# Altium schematic symbol library Resistor.SchLib: 285 symbols (part 3 of 3)
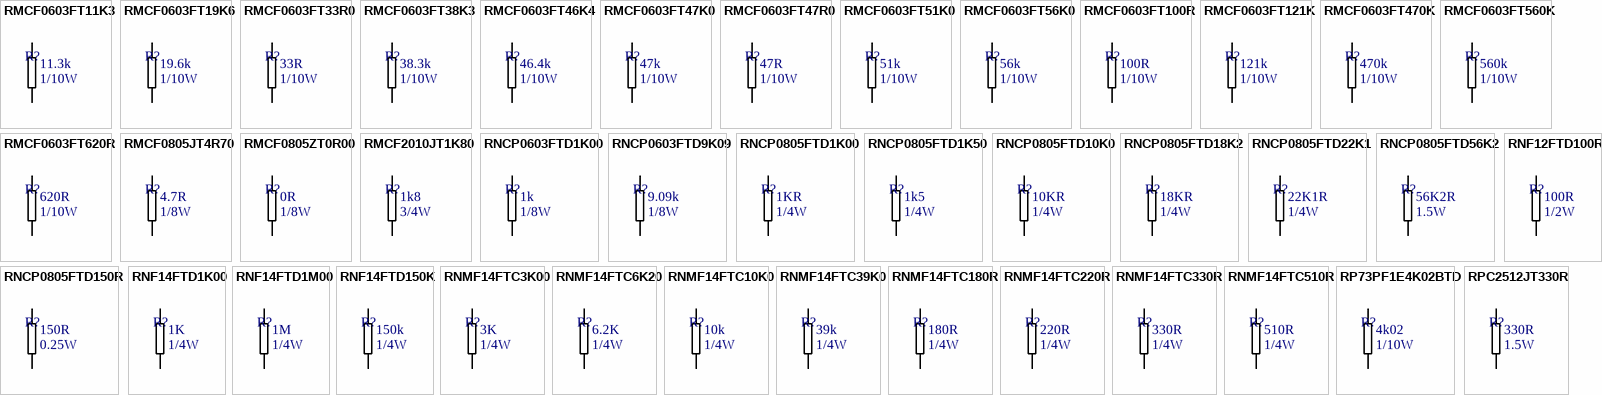
[diagram p9: symbols RMCF0603FT11K3 to RPC2512JT330R]

## RMCF0603FT56K0
designator R?  value 56k  Power: 1/10W  (hidden comment: RMCF0603FT56K0)
RES 56K OHM 1/10W 1% 0603; Manufacturer: Stackpole Electronics Inc; Mount Type: SMD; Tolerance: 1%; Supplier 1: Digi-Key; Supplier Part Number 1: RMCF0603FT56K0CT-ND
footprint R0603_MD (Chip Resistor, Body 1.6x0.8mm, IPC Medium Density)
pins: 1, 2

## RMCF0603FT100R
designator R?  value 100R  Power: 1/10W  (hidden comment: RMCF0603FT100R)
RES 100 OHM 1/10W 1% 0603; Manufacturer: Stackpole Electronics Inc; Mount Type: SMD; Tolerance: 1%; Supplier 1: Digi-Key; Supplier 2: Newark; Supplier Part Number 1: RMCF0603FT100RCT-ND; Supplier Part Number 2: 52K8078
footprint R0603_MD (Chip Resistor, Body 1.6x0.8mm, IPC Medium Density)
pins: 1, 2

## RMCF0603FT121K
designator R?  value 121k  Power: 1/10W  (hidden comment: RMCF0603FT121K)
RES 121K OHM 1/10W 1% 0603; Manufacturer: Stackpole Electronics Inc; Mount Type: SMD; Tolerance: 1%; Supplier 1: Newark; Supplier 2: Digi-Key; Supplier Part Number 1: 52K8115; Supplier Part Number 2: RMCF0603FT121KCT-ND
footprint R0603_MD (Chip Resistor, Body 1.6x0.8mm, IPC Medium Density)
pins: 1, 2

## RMCF0603FT470K
designator R?  value 470k  Power: 1/10W  (hidden comment: RMCF0603FT470K)
RES 470K OHM 1/10W 1% 0603; Manufacturer: Stackpole Electronics Inc; Mount Type: SMD; Tolerance: 1%; Supplier 1: Digi-Key; Supplier Part Number 1: RMCF0603FT470KCT-ND
footprint R0603_MD (Chip Resistor, Body 1.6x0.8mm, IPC Medium Density)
pins: 1, 2

## RMCF0603FT560K
designator R?  value 560k  Power: 1/10W  (hidden comment: RMCF0603FT560K)
RES 560K OHM 1/10W 1% 0603; Manufacturer: Stackpole Electronics Inc; Mount Type: SMD; Tolerance: 1%; Supplier 1: Digi-Key; Supplier Part Number 1: RMCF0603FT560KCT-ND
footprint R0603_MD (Chip Resistor, Body 1.6x0.8mm, IPC Medium Density)
pins: 1, 2

## RMCF0603FT620R
designator R?  value 620R  Power: 1/10W  (hidden comment: RMCF0603FT620R)
RES 620 OHM 1/10W 1% 0603; Manufacturer: Stackpole Electronics Inc; Mount Type: SMD; Tolerance: 1%; Supplier 1: Digi-Key; Supplier Part Number 1: RMCF0603FT620RCT-ND
footprint R0603_MD (Chip Resistor, Body 1.6x0.8mm, IPC Medium Density)
pins: 1, 2

## RMCF0805JT4R70
designator R?  value 4.7R  Power: 1/8W  (hidden comment: RMCF0805JT4R70)
RES SMD 4.7 OHM 5% 1/8W 0805; Manufacturer: Stackpole Electronics Inc.; Mount Type: SMD; Tolerance: 5%; Supplier 1: Farnell; Supplier 2: Newark; Supplier 3: Digi-Key; Supplier Part Number 1: 1514865; Supplier Part Number 2: 59M6913; Supplier Part Number 3: RMCF0805JT4R70CT-ND
footprint R0805_HD (Chip Resistor, Body 2.0x1.3mm, IPC High Density)
pins: 1, 2

## RMCF0805ZT0R00
designator R?  value 0R  Power: 1/8W  (hidden comment: RMCF0805ZT0R00)
RES 0.0 OHM 1/8W JUMP 0805; Manufacturer: Stackpole Electronics Inc; Tolerance: 1%; Mount Type: SMD; Supplier 1: Newark; Supplier 2: Digi-Key; Supplier Part Number 1: 79M6013; Supplier Part Number 2: RMCF0805ZT0R00CT-ND
footprint R0805_MD (Chip Resistor, Body 2.0x1.3mm, IPC Medium Density)
pins: 1, 2

## RMCF2010JT1K80
designator R?  value 1k8  Power: 3/4W  (hidden comment: RMCF2010JT1K80)
RES 1.8K OHM 3/4W 5% 2010; Manufacturer: Stackpole Electronics Inc; Mount Type: SMD; Tolerance: 5%; Supplier 1: Digi-Key; Supplier Part Number 1: RMCF2010JT1K80CT-ND
footprint R2010_MD (Chip Resistor, Body 5x2.5mm, IPC Medium Density)
pins: 1, 2

## RNCP0603FTD1K00
designator R?  value 1k  Power: 1/8W  (hidden comment: RNCP0603FTD1K00)
RES 1K OHM 1/8W 1% 0603; Manufacturer: Stackpole Electronics Inc; Mount Type: SMD; Tolerance: 1%; Supplier 1: Digi-Key; Supplier Part Number 1: RNCP0603FTD1K00CT-ND
footprint R0603_MD (Chip Resistor, Body 1.6x0.8mm, IPC Medium Density)
pins: 1, 2

## RNCP0603FTD9K09
designator R?  value 9.09k  Power: 1/8W  (hidden comment: RNCP0603FTD9K09)
RES 9.09K OHM 1/8W 1% 0603; Manufacturer: Stackpole Electronics Inc; Mount Type: SMD; Tolerance: 1%; Supplier 1: Digi-Key; Supplier Part Number 1: RNCP0603FTD9K09CT-ND
footprint R0603_MD (Chip Resistor, Body 1.6x0.8mm, IPC Medium Density)
pins: 1, 2

## RNCP0805FTD1K00
designator R?  value 1KR  Power: 1/4W  (hidden comment: RNCP0805FTD1K00)
RES SMD 1K OHM 1% 1/4W 0805; Manufacturer: Stackpole Electronics Inc.; Mount Type: SMD; Tolerance: 1%; Supplier 1: Arrow; Supplier Part Number 1: Cr6bAvbXXfw9aDhrtEtfpP4Qw9G0CbDuyktk-hMyCGE; Supplier 2: Digi-Key; Supplier Part Number 2: RNCP0805FTD1K00DKR-ND
footprint R0805_MD (Chip Resistor, Body 2.0x1.3mm, IPC Medium Density)
pins: 1, 2

## RNCP0805FTD1K50
designator R?  value 1k5  Power: 1/4W  (hidden comment: RNCP0805FTD1K50)
RES SMD 1.5K OHM 1% 1/4W 0805; Manufacturer: Stackpole Electronics Inc.; Mount Type: SMD; Tolerance: 1%; Supplier 6: Digi-Key; Supplier Part Number 6: RNCP0805FTD1K50TR-ND; Supplier 1: Digi-Key; Supplier Part Number 1: RNCP0805FTD1K50CT-ND; Supplier 2: Digi-Key; Supplier Part Number 2: RNCP0805FTD1K50DKR-ND
footprint R0805_MD (Chip Resistor, Body 2.0x1.3mm, IPC Medium Density)
pins: 1, 2

## RNCP0805FTD10K0
designator R?  value 10KR  Power: 1/4W  (hidden comment: RNCP0805FTD10K0)
RES SMD 10K OHM 1% 1/4W 0805; Manufacturer: Stackpole Electronics Inc.; Mount Type: SMD; Tolerance: 1%; Supplier 1: Digi-Key; Supplier Part Number 1: RNCP0805FTD10K0TR-ND; Supplier 2: Farnell; Supplier Part Number 2: 1576473; Supplier 3: Digi-Key; Supplier 4: Digi-Key; Supplier 5: Arrow; Supplier Part Number 3: RNCP0805FTD10K0CT-ND; Supplier Part Number 4: RNCP0805FTD10K0DKR-ND; Supplier Part Number 5: Cr6bAvbXXfw9aDhrtEtfpCMPYzlChi6THi2wt_G3woc
footprint R0805_MD (Chip Resistor, Body 2.0x1.3mm, IPC Medium Density)
pins: 1, 2

## RNCP0805FTD18K2
designator R?  value 18KR  Power: 1/4W  (hidden comment: RNCP0805FTD18K2)
RES SMD 18.2K OHM 1% 1/4W 0805; Manufacturer: Stackpole Electronics Inc.; Mount Type: SMD; Tolerance: 1%; Supplier 1: Digi-Key; Supplier Part Number 1: RNCP0805FTD18K2CT-ND
footprint R0805_MD (Chip Resistor, Body 2.0x1.3mm, IPC Medium Density)
pins: 1, 2

## RNCP0805FTD22K1
designator R?  value 22K1R  Power: 1/4W  (hidden comment: RNCP0805FTD22K1)
RES SMD 22.1K OHM 1% 1/4W 0805; Manufacturer: Stackpole Electronics Inc.; Mount Type: SMD; Tolerance: 1%; Supplier 1: Arrow; Supplier Part Number 1: yaxfc_XJzLb6q6X2XdbqQDJh6jsctqqpvjmLy0SBzwU; Supplier 2: Digi-Key; Supplier Part Number 2: RNCP0805FTD22K1TR-ND; Supplier 3: Digi-Key; Supplier Part Number 3: RNCP0805FTD22K1CT-ND; Supplier 4: Digi-Key; Supplier Part Number 4: RNCP0805FTD22K1DKR-ND
footprint R0805_MD (Chip Resistor, Body 2.0x1.3mm, IPC Medium Density)
pins: 1, 2

## RNCP0805FTD56K2
designator R?  value 56K2R  Power: 1.5W  (hidden comment: RNCP0805FTD56K2)
RES SMD 56.2K OHM 1% 1/4W 0805; Manufacturer: Stackpole Electronics Inc.; Mount Type: SMD; Tolerance: 1%; Supplier 1: Mouser; Supplier Part Number 1: Anonymous Daily Limit Reached; Supplier 2: Digi-Key; Supplier Part Number 2: RNCP0805FTD56K2TR-ND; Supplier 3: Digi-Key; Supplier Part Number 3: RNCP0805FTD56K2CT-ND; Supplier 4: Digi-Key; Supplier Part Number 4: RNCP0805FTD56K2DKR-ND
footprint R0805_MD (Chip Resistor, Body 2.0x1.3mm, IPC Medium Density)
pins: 1, 2

## RNCP0805FTD150R
designator R?  value 150R  Power: 0.25W  (hidden comment: RNCP0805FTD150R)
RES SMD 150 OHM 1% 1/4W 0805; Manufacturer: Stackpole Electronics Inc.; Mount Type: SMD; Tolerance: 1%; Supplier 1: Digi-Key; Supplier Part Number 1: RNCP0805FTD150RCT-ND
footprint R0805_MD (Chip Resistor, Body 2.0x1.3mm, IPC Medium Density)
pins: 1, 2

## RNF12FTD100R
designator R?  value 100R  Power: 1/2W  (hidden comment: RNF12FTD100R)
RES 100 OHM 1/2W 1% AXIAL; Manufacturer: Stackpole Electronics Inc; Mount Type: PTH; Tolerance: 1%; Supplier 1: Digi-Key; Supplier Part Number 1: RNF12FTD100RCT-ND
footprint RES_AXIAL_0.4
pins: 1, 2

## RNF14FTD1K00
designator R?  value 1K  Power: 1/4W  (hidden comment: RNF14FTD1K00)
RES 1K OHM 1/4W 1% AXIAL; Manufacturer: Stackpole Electronics Inc.; Mount Type: PTH; Tolerance: 1%; Supplier 1: Newark; Supplier 2: Farnell; Supplier 3: Digi-Key; Supplier Part Number 1: 92B3651; Supplier Part Number 2: 4677341; Supplier Part Number 3: RNF14FTD1K00CT-ND
footprint RES_AXIAL_0.4
pins: 1, 2

## RNF14FTD1M00
designator R?  value 1M  Power: 1/4W  (hidden comment: RNF14FTD1M00)
RES 1M OHM 1/4W 1% AXIAL; Manufacturer: Stackpole Electronics Inc; Mount Type: PTH; Tolerance: 1%; Supplier 1: Newark; Supplier Part Number 1: 67T0186; Supplier 2: Digi-Key; Supplier Part Number 2: RNF14FTD1M00CT-ND
footprint RES_AXIAL_0.4
pins: 1, 2

## RNF14FTD150K
designator R?  value 150k  Power: 1/4W  (hidden comment: RNF14FTD150K)
RES 150K OHM 1/4W 1% AXIAL; Manufacturer: Stackpole Electronics Inc; Mount Type: PTH; Tolerance: 1%
footprint RES_AXIAL_0.4
pins: 1, 2

## RNMF14FTC3K00
designator R?  value 3K  Power: 1/4W  (hidden comment: RNMF14FTC3K00)
RES 3K OHM 1/4W 1% AXIAL; Manufacturer: Stackpole Electronics Inc.; Mount Type: PTH; Tolerance: 1%; Supplier 1: Digi-Key; Supplier Part Number 1: S3KCACT-ND
footprint RES_AXIAL_0.4
pins: 1, 2

## RNMF14FTC6K20
designator R?  value 6.2K  Power: 1/4W  (hidden comment: RNMF14FTC6K20)
RES 6.2K OHM 1/4W 1% AXIAL; Manufacturer: Stackpole Electronics Inc.; Mount Type: PTH; Supplier 1: Digi-Key; Tolerance: 1%; Supplier Part Number 1: S6.2KCACT-ND
footprint RES_AXIAL_0.4
pins: 1, 2

## RNMF14FTC10K0
designator R?  value 10k  Power: 1/4W  (hidden comment: RNMF14FTC10K0)
RES 10K OHM 1/4W 1% AXIAL; Manufacturer: Stackpole Electronics Inc; Mount Type: PTH; Tolerance: 1%; Supplier 1: Digi-Key; Supplier Part Number 1: S10KCATR-ND
footprint RES_AXIAL_0.4
pins: 1, 2

## RNMF14FTC39K0
designator R?  value 39k  Power: 1/4W  (hidden comment: RNMF14FTC39K0)
RES 39K OHM 1/4W 1% AXIAL; Manufacturer: Stackpole Electronics Inc; Mount Type: PTH; Tolerance: 1%; Supplier 1: Digi-Key; Supplier Part Number 1: S39KCACT-ND
footprint RES_AXIAL_0.4
pins: 1, 2

## RNMF14FTC180R
designator R?  value 180R  Power: 1/4W  (hidden comment: RNMF14FTC180R)
RES 180 OHM 1/4W 1% AXIAL; Manufacturer: Stackpole Electronics Inc; Mount Type: PTH; Tolerance: 1%; Supplier 1: Digi-Key; Supplier Part Number 1: S180CACT-ND
footprint RES_AXIAL_0.4
pins: 1, 2

## RNMF14FTC220R
designator R?  value 220R  Power: 1/4W  (hidden comment: RNMF14FTC220R)
RES 220 OHM 1/4W 1% AXIAL; Manufacturer: Stackpole Electronics Inc; Mount Type: PTH; Tolerance: 1%; Supplier 1: Digi-Key; Supplier Part Number 1: S220CACT-ND
footprint RES_AXIAL_0.4
pins: 1, 2

## RNMF14FTC330R
designator R?  value 330R  Power: 1/4W  (hidden comment: RNMF14FTC330R)
RES 330 OHM 1/4W 1% AXIAL; Manufacturer: Stackpole Electronics Inc; Mount Type: PTH; Tolerance: 1%; Supplier 1: Digi-Key; Supplier Part Number 1: S330CACT-ND
footprint RES_AXIAL_0.4
pins: 1, 2

## RNMF14FTC510R
designator R?  value 510R  Power: 1/4W  (hidden comment: RNMF14FTC510R)
RES 510 OHM 1/4W 1% AXIAL; Manufacturer: Stackpole Electronics Inc.; Mount Type: PTH; Tolerance: 1%; Supplier 1: Digi-Key; Supplier Part Number 1: S510CACT-ND
footprint RES_AXIAL_0.4
pins: 1, 2

## RP73PF1E4K02BTD
designator R?  value 4k02  Power: 1/10W  (hidden comment: RP73PF1E4K02BTD)
RES 4.02K OHM 0.1% 1/10W 0402; Manufacturer: TE Connectivity Passive Product; Tolerance: 0,1%; Mount Type: SMD
footprint R0402_MD (Chip Resistor Body 1.0x0.5mm, IPC Medium Density)
pins: 1, 2

## RPC2512JT330R
designator R?  value 330R  Power: 1.5W  (hidden comment: RPC2512JT330R)
RES SMD 330 OHM 5% 1.5W 2512; Manufacturer: Stackpole Electronics Inc.; Mount Type: SMD; Tolerance: 5%; Supplier 1: Arrow; Supplier Part Number 1: yNegJvnE5V9WryrksIh88Kg3SSRUeSrh8gMpSJnf5xk; Supplier 2: Digi-Key; Supplier Part Number 2: RPC2512JT330RCT-ND; Supplier 3: Digi-Key; Supplier Part Number 3: RPC2512JT330RDKR-ND; Supplier 4: Farnell; Supplier Part Number 4: 1831572
footprint R2512_MD
pins: 1, 2

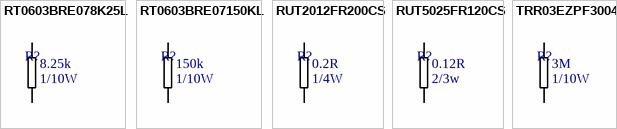
[diagram p7: symbols RT0603BRE078K25L to TRR03EZPF3004]

## RT0603BRE078K25L
designator R?  value 8.25k  Power: 1/10W  (hidden comment: RT0603BRE078K25L)
RES SMD 8.25KOHM 0.1% 1/10W 0603; Manufacturer: Yageo; Mount Type: SMD; Tolerance: 0.1%; Supplier 1: Digi-Key; Supplier Part Number 1: YAG4782CT-ND; Supplier 2: Avnet; Supplier Part Number 2: RT0603BRE078K25L
footprint R0603_MD (Chip Resistor, Body 1.6x0.8mm, IPC Medium Density)
pins: 1, 2

## RT0603BRE07150KL
designator R?  value 150k  Power: 1/10W  (hidden comment: RT0603BRE07150KL)
RES SMD 150K OHM 0.1% 1/10W 0603; Manufacturer: Yageo; Mount Type: SMD; Tolerance: 0.1%; Supplier 1: Digi-Key; Supplier Part Number 1: YAG4629CT-ND
footprint R0603_MD (Chip Resistor, Body 1.6x0.8mm, IPC Medium Density)
pins: 1, 2

## RUT2012FR200CS
designator R?  value 0.2R  Power: 1/4W  (hidden comment: RUT2012FR200CS)
RES 0.2R OHM 1/4W 1% 0805; Manufacturer: Samsung Electro-Mechanics America, Inc; Mount Type: SMD; Tolerance: 1%; Supplier 1: Digi-Key; Supplier Part Number 1: 1276-6171-1-ND
footprint R0805_MD (Chip Resistor, Body 2.0x1.3mm, IPC Medium Density)
pins: 1, 2

## RUT5025FR120CS
designator R?  value 0.12R  Power: 2/3w  (hidden comment: RUT5025FR120CS)
RES 0.12 OHM 2/3W 1% 2010; Manufacturer: Samsung Electro-Mechanics America; Mount Type: smd; Tolerance: 1%; Supplier 1: Digi-Key; Supplier Part Number 1: 1276-6182-1-ND
footprint R2010_MD (Chip Resistor, Body 5x2.5mm, IPC Medium Density)
pins: 1, 2

## TRR03EZPF3004
designator R?  value 3M  Power: 1/10W  (hidden comment: TRR03EZPF3004)
RES 3M OHM 1/10W 1% 0603 SMD; Manufacturer: Rohm Semiconductor; Mount Type: SMD; Tolerance: 1%; Supplier 1: Digi-Key; Supplier Part Number 1: RHM3MBJCT-ND
footprint R0603_MD (Chip Resistor, Body 1.6x0.8mm, IPC Medium Density)
pins: 1, 2